# Altium schematic symbol library LED.SchLib: 12 symbols
Pins are listed as number, name and electrical type; pins without a type are passive.

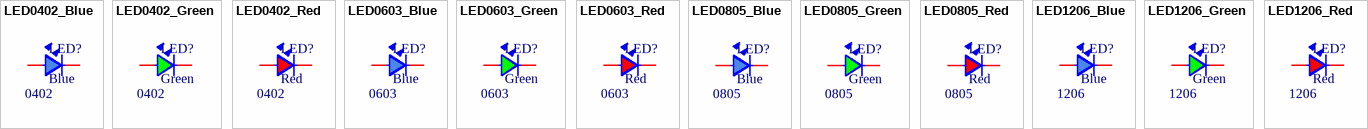
[diagram p0: symbols LED0402_Blue to LED1206_Red]

## LED0402_Blue
designator LED?, comment Blue  Package: 0402
20mA 60mcd Water Clear -40℃~+85℃ 465nm Blue 140° 120mW 3.3V 0402 LED Indication - Discrete ROHS; Manufacturer: Kingbright; Mfr. Part: APHHS1005QBC/D; Key Attributes: 1.0 x 0.5 mm SMD Chip LED Lamp; LCSC Part: C2853064; Illumination Color: Blue; Power(Watts): 120mW; Voltage - Forward(Vf): 3.3V; Forward Current: 20mA; Operating Temperature: -40℃~+85℃; Link: https://www.lcsc.com/product-detail/C2853064.html
footprint LED0402_Blue
pins: 1, 2

## LED0402_Green
designator LED?, comment Green  Package: 0402
20mA 600mcd Water Clear 525nm -40℃~+85℃ Green 140° 102.5mW 4.1V 0402 LED Indication - Discrete ROHS; Manufacturer: Kingbright; Mfr. Part: KPHHS-1005ZGC-V; Key Attributes: 1.0 x 0.5 mm SMD Chip LED Lamp; LCSC Part: C598352; Illumination Color: Green; Power(Watts): 102.5mW; Voltage - Forward(Vf): 4.1V; Forward Current: 20mA; Operating Temperature: -40℃~+85℃; Link: https://www.lcsc.com/product-detail/C598352.html
footprint LED0402_Green
pins: 1, 2

## LED0402_Red
designator LED?, comment Red  Package: 0402
20mA 70mcd Water Clear -40℃~+85℃ 630nm Red 120° 75mW 1.95V 0402 LED Indication - Discrete ROHS; Manufacturer: Kingbright; Mfr. Part: APHHS1005SURCK; Key Attributes: 1.0 x 0.5 mm SMD Chip LED Lamp; LCSC Part: C2852592; Illumination Color: Red; Power(Watts): 75mW; Voltage - Forward(Vf): 1.95V; Forward Current: 20mA; Operating Temperature: -40℃~+85℃; Link: https://www.lcsc.com/product-detail/C2852592.html
footprint LED0402_RED
pins: 1, 2

## LED0603_Blue
designator LED?, comment Blue  Package: 0603
2mA 24mcd Water Clear -40℃~+85℃ 470nm Blue 130° 120mW 2.65V 0603 LED Indication - Discrete ROHS; Manufacturer: Kingbright; Mfr. Part: APT1608LVBC/D; Key Attributes: 1.6 x 0.8 mm SMD Chip LED Lamp; LCSC Part: C5200747; Illumination Color: Blue; Power(Watts): 120mW; Voltage - Forward(Vf): 2.65V; Forward Current: 2mA; Operating Temperature: -40℃~+85℃; Link: https://www.lcsc.com/product-detail/C5200747.html
footprint LED0603_BLUE
pins: 1, 2

## LED0603_Green
designator LED?, comment Green  Package: 0603
2mA 20mcd~50mcd Water Clear 525nm -40℃~+85℃ Green 130° 75mW 2.65V 0603 LED Indication - Discrete ROHS; Manufacturer: Kingbright; Mfr. Part: KPT-1608LVZGCK; Key Attributes: 1.6X0.8mm SMD CHIP LED LAMP; LCSC Part: C598356; Illumination Color: Green; Power(Watts): 75mW; Voltage - Forward(Vf): 2.65V; Forward Current: 2mA; Operating Temperature: -40℃~+85℃; Link: https://www.lcsc.com/product-detail/C598356.html
footprint LED0603_GREEN
pins: 1, 2

## LED0603_Red
designator LED?, comment Red  Package: 0603
20mA 230mcd Water Clear -40℃~+85℃ 630nm Red 120° 75mW 1.95V 0603 LED Indication - Discrete ROHS; Manufacturer: Kingbright; Mfr. Part: APT1608SURCK; Key Attributes: 1.6 x 0.8 mm SMD Chip LED Lamp; LCSC Part: C5875723; Illumination Color: Red; Power(Watts): 75mW; Voltage - Forward(Vf): 1.95V; Forward Current: 20mA; Operating Temperature: -40℃~+85℃; Link: https://www.lcsc.com/product-detail/C5875723.html
footprint LED0603_RED
pins: 1, 2

## LED0805_Blue
designator LED?, comment Blue  Package: 0805
20mA 100mcd Water Clear -40℃~+85℃ 465nm Blue 140° 120mW 3.3V 0805 LED Indication - Discrete ROHS; Manufacturer: Kingbright; Mfr. Part: APHCM2012QBC/D-F01; Key Attributes: 2.0 x 1.25 mm SMD Chip LED Lamp; LCSC Part: C5248439; Illumination Color: Blue; Power(Watts): 120mW; Voltage - Forward(Vf): 3.3V; Forward Current: 20mA; Operating Temperature: -40℃~+85℃; Link: https://www.lcsc.com/product-detail/C5248439.html
footprint LED0805_BLUE
pins: 1, 2

## LED0805_Green
designator LED?, comment Green  Package: 0805
20mA Water Clear 50mcd -40℃~+85℃ 570nm Green 140° 75mW 2.1V 0805 LED Indication - Discrete ROHS; Manufacturer: Kingbright; Mfr. Part: APT2012CGCK; Key Attributes: 2.0 x 1.25 mm SMD Chip LED Lamp; LCSC Part: C5875740; Illumination Color: Green; Power(Watts): 75mW; Voltage - Forward(Vf): 2.1V; Forward Current: 20mA; Operating Temperature: -40℃~+85℃; Link: https://www.lcsc.com/product-detail/C5875740.html
footprint LED0805_Green
pins: 1, 2

## LED0805_Red
designator LED?, comment Red  Package: 0805
20mA Water Clear -40℃~+85℃ 617nm Red 160° 75mW 2.5V 0805 LED Indication - Discrete ROHS; Manufacturer: Kingbright; Mfr. Part: KP-2012EC; Key Attributes: 2.0 x 1.25 mm SMD Chip LED Lamp; LCSC Part: C598272; Illumination Color: Red; Power(Watts): 75mW; Voltage - Forward(Vf): 2.5V; Forward Current: 20mA; Operating Temperature: -40℃~+85℃; Link: https://www.lcsc.com/product-detail/C598272.html
footprint LED0603_RED
pins: 1, 2

## LED1206_Blue
designator LED?, comment Blue  Package: 1206
20mA 700mcd Water Clear -40℃~+85℃ 465nm Blue 30° 120mW 4V 1206 LED Indication - Discrete ROHS; Manufacturer: Kingbright; Mfr. Part: KPTD-3216QBC-D; Key Attributes: 3.2 x 1.6 mm SMD Chip LED Lamp; LCSC Part: C598385; Illumination Color: Blue; Power(Watts): 120mW; Voltage - Forward(Vf): 4V; Forward Current: 20mA; Operating Temperature: -40℃~+85℃; Link: https://www.lcsc.com/product-detail/C598385.html
footprint LED1206_BLUE
pins: 1, 2

## LED1206_Green
designator LED?, comment Green  Package: 1206
20mA 120mcd~300mcd Water Clear -40℃~+85℃ 570nm Green 50° 75mW 2.1V 1206 LED Indication - Discrete ROHS; Manufacturer: Kingbright; Mfr. Part: KPTD-3216CGCK-01; Key Attributes: 3.2X1.6mm SMD CHIP LED LAMP; LCSC Part: C27394172; Illumination Color: Green; Power(Watts): 75mW; Voltage - Forward(Vf): 2.1V; Forward Current: 20mA; Operating Temperature: -40℃~+85℃; Link: https://www.lcsc.com/product-detail/C27394172.html
footprint LED1206_Green
pins: 1, 2

## LED1206_Red
designator LED?, comment Red  Package: 1206
20mA 700mcd~1100mcd Water Clear -40℃~+85℃ 625nm Red 140° 84mW 2.2V~2.8V 1206 LED Indication - Discrete ROHS; Manufacturer: Kingbright; Mfr. Part: APT3216SECK/J3-PRV; Key Attributes: 3.2 mm x 1.6 mm SMD Chip LED Lamp; LCSC Part: C5361738; Illumination Color: Red; Power(Watts): 84mW; Voltage - Forward(Vf): 2.2V~2.8V; Forward Current: 20mA; Operating Temperature: -40℃~+85℃; Link: https://www.lcsc.com/product-detail/C5361738.html
footprint LED1206_RED
pins: 1, 2